# Altium schematic symbol library BQ2201SN-N.SchLib: 1 symbol
Pins are listed as number, name and electrical type; pins without a type are passive.

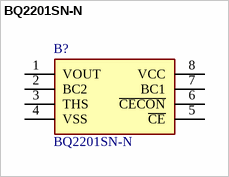
[diagram p0: symbol BQ2201SN-N]

## BQ2201SN-N
designator B?
BQ2201SN-N, SRAM Controller Unit Surface Mount, -40  +85 C, 8-Pin, SOIC; Manufacturer_Name: Texas Instruments; Geometry.Height: 1.75mm; Mouser Part Number: 595-BQ2201SN-N; Mouser Price/Stock: https://www.mouser.com/Search/Refine.aspx?Keyword=595-BQ2201SN-N; Manufacturer_Part_Number: BQ2201SN-N; Datasheet Link: http://www.ti.com/lit/gpn/BQ2201
footprint SOIC127P600X175-8N
pins: 1 VOUT, 2 BC2, 3 THS, 4 VSS, 5 ~{CE}, 6 ~{CECON}, 7 BC1, 8 VCC